# Altium footprint library SparkFun-Connectors.PCBLIB: 312 footprints (part 15 of 20)
Each footprint in its own frame and in the unit in brackets; x right, y up, seen from the top. Pads: shape width x height; smd on the part's side, far side on the other; paste and mask are expansions set on the pad; w line width, h text height; cw(c..) or ccw(c..) is an arc to the next point about the centre after c.
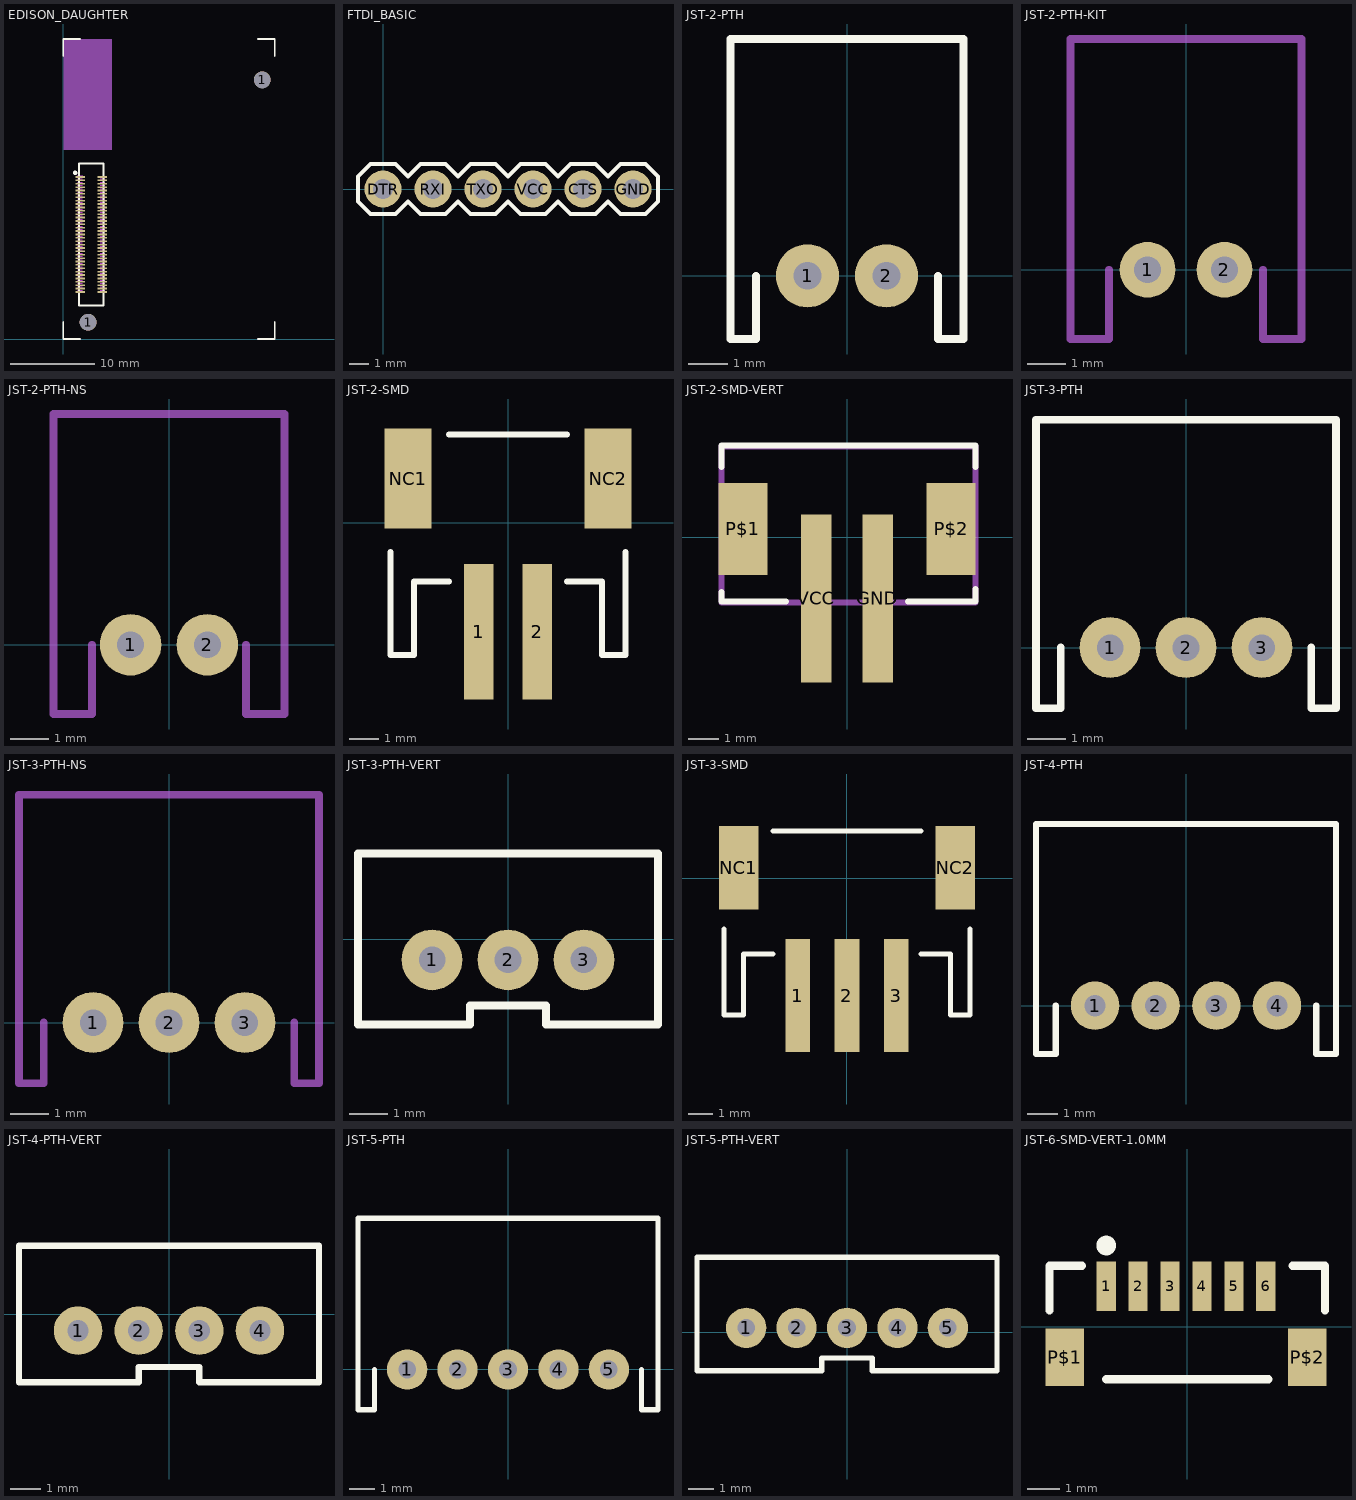
[diagram p14: the footprints below, top view; thin cyan lines are the x and y axes]

## EDISON_DAUGHTER [mm]
pads (72):
  rect 1.14x0.2 smd: 1(1.98,19.17) 2(4.62,19.17) 3(1.98,18.77) 4(4.62,18.77) 5(1.98,18.37) 6(4.62,18.37) 7(1.98,17.97) 8(4.62,17.97) 9(1.98,17.57) 10(4.62,17.57) 11(1.98,17.17) 12(4.62,17.17) 13(1.98,16.77) 14(4.62,16.77) 15(1.98,16.37) 16(4.62,16.37) 17(1.98,15.97) 18(4.62,15.97) 19(1.98,15.57) 20(4.62,15.57) 21(1.98,15.17) 22(4.62,15.17) 23(1.98,14.77) 24(4.62,14.77) 25(1.98,14.37) 26(4.62,14.37) 27(1.98,13.97) 28(4.62,13.97) 29(1.98,13.57) 30(4.62,13.57) 31(1.98,13.17) 32(4.62,13.17) 33(1.98,12.77) 34(4.62,12.77) 35(1.98,12.37) 36(4.62,12.37) 37(1.98,11.97) 38(4.62,11.97) 39(1.98,11.57) 40(4.62,11.57) 41(1.98,11.17) 42(4.62,11.17) 43(1.98,10.77) 44(4.62,10.77) 45(1.98,10.37) 46(4.62,10.37) 47(1.98,9.97) 48(4.62,9.97) 49(1.98,9.57) 50(4.62,9.57) 51(1.98,9.17) 52(4.62,9.17) 53(1.98,8.77) 54(4.62,8.77) 55(1.98,8.37) 56(4.62,8.37) 57(1.98,7.97) 58(4.62,7.97) 59(1.98,7.57) 60(4.62,7.57) 61(1.98,7.17) 62(4.62,7.17) 63(1.98,6.77) 64(4.62,6.77) 65(1.98,6.37) 66(4.62,6.37) 67(1.98,5.97) 68(4.62,5.97) 69(1.98,5.57) 70(4.62,5.57)
  round 2 hole 2: 1(2.93,1.98) 1(23.53,30.67)
Top Overlay:
  circle w0.305: c1.4,19.67 r0.1
  lines w0.203: 0,2 0,0 2,0 ; 0,33.5 0,35.5 2,35.5 ; 23,0 25,0 25,2 ; 23,35.5 25,35.5 25,33.5 ; 1.86,3.97 1.86,20.77 4.74,20.77 4.74,3.97 1.86,3.97
Mechanical 8 keep-out:
  lines w0.025: 1.663,19.319 2.297,19.319
  lines w0.051: 1.724,5.77 2.236,5.77 ; 1.724,6.17 2.236,6.17 ; 1.724,6.57 2.236,6.57 ; 1.724,6.97 2.236,6.97 ; 1.724,7.37 2.236,7.37 ; 1.724,7.77 2.236,7.77 ; 1.724,8.17 2.236,8.17 ; 1.724,8.57 2.236,8.57 ; 1.724,8.97 2.236,8.97 ; 1.724,9.37 2.236,9.37 ; 1.724,9.77 2.236,9.77 ; 1.724,10.17 2.236,10.17 ; 1.724,10.57 2.236,10.57 ; 1.724,10.97 2.236,10.97 ; 1.724,11.37 2.236,11.37 ; 1.724,11.77 2.236,11.77 ; 1.724,12.17 2.236,12.17 ; 1.724,12.57 2.236,12.57 ; 1.724,12.97 2.236,12.97 ; 1.724,13.37 2.236,13.37 ; 1.724,13.77 2.236,13.77 ; 1.724,14.17 2.236,14.17 ; 1.724,14.57 2.236,14.57 ; 1.724,14.97 2.236,14.97 ; 1.724,15.37 2.236,15.37 ; 1.724,15.77 2.236,15.77 ; 1.724,16.17 2.236,16.17 ; 1.724,16.57 2.236,16.57 ; 1.724,16.97 2.236,16.97 ; 1.724,17.37 2.236,17.37 ; 1.724,17.77 2.236,17.77 ; 1.724,18.17 2.236,18.17 ; 1.724,18.57 2.236,18.57 ; 1.724,18.97 2.236,18.97 ; 4.369,5.77 4.881,5.77 ; 4.369,6.17 4.881,6.17 ; 4.369,6.57 4.881,6.57 ; 4.369,6.97 4.881,6.97 ; 4.369,7.37 4.881,7.37 ; 4.369,7.77 4.881,7.77 ; 4.369,8.17 4.881,8.17 ; 4.369,8.57 4.881,8.57 ; 4.369,8.97 4.881,8.97 ; 4.369,9.37 4.881,9.37 ; 4.369,9.77 4.881,9.77 ; 4.369,10.17 4.881,10.17 ; 4.369,10.57 4.881,10.57 ; 4.369,10.97 4.881,10.97 ; 4.369,11.37 4.881,11.37 ; 4.369,11.77 4.881,11.77 ; 4.369,12.17 4.881,12.17 ; 4.369,12.57 4.881,12.57 ; 4.369,12.97 4.881,12.97 ; 4.369,13.37 4.881,13.37 ; 4.369,13.77 4.881,13.77 ; 4.369,14.17 4.881,14.17 ; 4.369,14.57 4.881,14.57 ; 4.369,14.97 4.881,14.97 ; 4.369,15.37 4.881,15.37 ; 4.369,15.77 4.881,15.77 ; 4.369,16.17 4.881,16.17 ; 4.369,16.57 4.881,16.57 ; 4.369,16.97 4.881,16.97 ; 4.369,17.37 4.881,17.37 ; 4.369,17.77 4.881,17.77 ; 4.369,18.17 4.881,18.17 ; 4.369,18.57 4.881,18.57 ; 4.369,18.97 4.881,18.97
Mechanical 27:
  region: 5.78,35.5 0,35.5 0,22.39 5.78,22.39
Mechanical 28:
  region: 5.78,35.5 0,35.5 0,22.39 5.78,22.39

## FTDI_BASIC [mil]
pads (6):
  round 74 hole 40: CTS(400,0) DTR(0,0) GND(500,0) RXI(100,0) TXO(200,0) VCC(300,0)
Top Overlay:
  lines w8: -50,-25 -50,25 -25,50 25,50 50,25 75,50 125,50 150,25 175,50 225,50 250,25 275,50 325,50 350,25 375,50 425,50 450,25 475,50 525,50 550,25 550,-25 525,-50 475,-50 450,-25 425,-50 375,-50 350,-25 325,-50 275,-50 250,-25 225,-50 175,-50 150,-25 125,-50 75,-50 50,-25 25,-50 -25,-50 -50,-25
Mechanical 16:
  rectangle: 490,-10 510,10
  rectangle: 390,-10 410,10
  rectangle: 290,-10 310,10
  rectangle: 190,-10 210,10
  rectangle: 90,-10 110,10
  rectangle: -10,-10 10,10
  text "GRN" at 25,75 h42.5
  text "BLK" at 525,75 h42.5

## JST-2-PTH [mm]
pads (2):
  round 1.6 hole 0.7: 1(-1,0) 2(1,0)
Top Overlay:
  lines w0.203: -2.3,0 -2.3,-1.6 -2.95,-1.6 -2.95,6 2.95,6 2.95,-1.6 2.3,-1.6 2.3,0
Mechanical 16:
  text "+" at 0.6,0.7 h1.97
  text "-" at -1.4,0.7 h1.97

## JST-2-PTH-KIT [mil]
pads (2):
  round 57 hole 27.56: 1(-39.37,0) 2(39.37,0)
Top Solder:
  region: -39.37,-11.28 -41.61,-11.28 -45.76,-9.57 -48.94,-6.39 -50.65,-2.24 -50.65,0 -50.65,2.24 -48.93,6.39 -45.76,9.56 -41.61,11.28 -39.37,11.28 -37.13,11.28 -32.98,9.56 -29.81,6.39 -28.09,2.24 -28.09,0 -28.09,-2.24 -29.81,-6.39 -32.98,-9.56 -37.13,-11.28
  region: 39.37,-11.28 37.13,-11.28 32.98,-9.57 29.8,-6.39 28.09,-2.24 28.09,0 28.09,2.24 29.81,6.39 32.98,9.56 37.13,11.28 39.37,11.28 41.61,11.28 45.76,9.56 48.93,6.39 50.65,2.24 50.65,0 50.65,-2.24 48.93,-6.39 45.76,-9.56 41.61,-11.28
Bottom Solder:
  region: -39.27,-26 -41.84,-26.01 -46.87,-25.01 -51.62,-23.06 -55.89,-20.22 -59.52,-16.6 -62.38,-12.33 -64.36,-7.6 -65.37,-2.57 -65.37,0 -65.37,2.56 -64.37,7.58 -62.41,12.32 -59.57,16.57 -55.95,20.2 -51.69,23.04 -46.95,25 -41.93,26 -39.37,26 -36.81,26 -31.79,25 -27.05,23.04 -22.8,20.2 -19.17,16.57 -16.33,12.32 -14.37,7.58 -13.37,2.56 -13.37,0 -13.36,-2.56 -14.35,-7.57 -16.29,-12.3 -19.13,-16.56 -22.73,-20.18 -26.98,-23.03 -31.7,-24.99 -36.71,-26
  region: 39.47,-26 36.9,-26.01 31.87,-25.01 27.12,-23.06 22.85,-20.22 19.22,-16.6 16.36,-12.33 14.38,-7.6 13.37,-2.57 13.37,0 13.37,2.56 14.37,7.58 16.33,12.32 19.17,16.57 22.79,20.2 27.05,23.04 31.79,25 36.81,26 39.37,26 41.93,26 46.95,25 51.69,23.04 55.94,20.2 59.57,16.57 62.41,12.32 64.37,7.58 65.37,2.56 65.37,0 65.38,-2.56 64.39,-7.57 62.45,-12.3 59.61,-16.56 56.01,-20.18 51.76,-23.03 47.04,-24.99 42.03,-26
Mechanical 16:
  lines w8: -78.74,0 -78.74,-70.87 -118.11,-70.87 -118.11,236.22 118.11,236.22 118.11,-70.87 78.74,-70.87 78.74,0
  text "+" at 23.62,27.56 h77.5
  text "-" at -55.12,27.56 h77.5

## JST-2-PTH-NS [mm]
pads (2):
  round 1.6 hole 0.7: 1(-1,0) 2(1,0)
Mechanical 16:
  lines w0.203: -2,0 -2,-1.8 -3,-1.8 -3,6 3,6 3,-1.8 2,-1.8 2,0
  text "+" at 0.6,0.7 h1.97
  text "-" at -1.4,0.7 h1.97

## JST-2-SMD [mm]
pads (4):
  rect 1x4.6 smd: 1(-1,-3.7) 2(1,-3.7)
  rect 1.6x3.4 smd: NC1(-3.4,1.5) NC2(3.4,1.5)
Top Overlay:
  lines w0.203: -4,-1 -4,-4.5 -3.2,-4.5 -3.2,-2 -2,-2 ; -2,3 2,3 ; 2,-2 3.2,-2 3.2,-4.5 4,-4.5 4,-1

## JST-2-SMD-VERT [mm]
pads (4):
  rect 1x5.5 smd: GND(1,-2) VCC(-1,-2)
  rect 1.6x3 smd: P$1(-3.4,0.27) P$2(3.4,0.27)
Top Overlay:
  lines w0.203: -4.1,-1.8 -4.1,-2.1 -2,-2.1 ; -4.1,2.3 -4.1,3 4.2,3 4.2,2.3 ; 2,-2.1 4.2,-2.1 4.2,-1.7
Mechanical 16:
  lines w0.203: -4.1,-2.13 4.2,-2.13 4.2,2.97 -4.1,2.97 -4.1,-2.13

## JST-3-PTH [mm]
pads (3):
  round 1.6 hole 0.7: 1(-2,0) 2(0,0) 3(2,0)
Top Overlay:
  lines w0.203: -3.3,0 -3.3,-1.6 -3.95,-1.6 -3.95,6 3.95,6 3.95,-1.6 3.3,-1.6 3.3,0
Mechanical 16:
  text "+" at -2.4,0.67 h1.97
  text "-" at -0.4,0.67 h1.97
  text "S" at 1.7,0.87 h1.24

## JST-3-PTH-NS [mm]
pads (3):
  round 1.6 hole 0.7: 1(-2,0) 2(0,0) 3(2,0)
Mechanical 16:
  lines w0.203: -3.3,0 -3.3,-1.6 -3.95,-1.6 -3.95,6 3.95,6 3.95,-1.6 3.3,-1.6 3.3,0
  text "+" at -2.4,0.67 h1.97
  text "-" at -0.4,0.67 h1.97
  text "S" at 1.7,0.87 h1.24

## JST-3-PTH-VERT [mm]
pads (3):
  round 1.6 hole 0.7: 1(-2,-0.55) 2(0,-0.55) 3(2,-0.55)
Top Overlay:
  lines w0.203: -3.95,-2.25 -3.95,2.25 3.95,2.25 3.95,-2.25 1,-2.25 1,-1.75 -1,-1.75 -1,-2.25 -3.95,-2.25
Mechanical 16:
  text "+" at -2.4,0.75 h1.97
  text "-" at -0.4,0.75 h1.97
  text "S" at 1.7,0.95 h1.24

## JST-3-SMD [mm]
pads (5):
  rect 1x4.6 smd: 1(-1.99,-4.77) 2(0.01,-4.77) 3(2.01,-4.77)
  rect 1.6x3.4 smd: NC1(-4.39,0.43) NC2(4.41,0.43)
Top Overlay:
  lines w0.203: -4.99,-2.07 -4.99,-5.57 -4.19,-5.57 -4.19,-3.07 -2.99,-3.07 ; -2.99,1.93 3.01,1.93 ; 3.01,-3.07 4.21,-3.07 4.21,-5.57 5.01,-5.57 5.01,-2.07

## JST-4-PTH [mm]
pads (4):
  round 1.6 hole 0.7: 1(-3,0) 2(-1,0) 3(1,0) 4(3,0)
Top Overlay:
  lines w0.203: -4.3,0 -4.3,-1.6 -4.95,-1.6 -4.95,6 4.95,6 4.95,-1.6 4.3,-1.6 4.3,0
Mechanical 16:
  text "+" at -3.4,0.7 h1.97
  text "-" at -1.4,0.7 h1.97
  text "S" at 0.7,0.9 h1.24
  text "S" at 2.7,0.9 h1.24

## JST-4-PTH-VERT [mm]
pads (4):
  round 1.6 hole 0.7: 1(-3,-0.55) 2(-1,-0.55) 3(1,-0.55) 4(3,-0.55)
Top Overlay:
  lines w0.203: -4.95,-2.25 -4.95,2.25 4.95,2.25 4.95,-2.25 1,-2.25 1,-1.75 -1,-1.75 -1,-2.25 -4.95,-2.25
Mechanical 16:
  text "+" at -1.4,0.75 h1.97
  text "-" at 0.6,0.75 h1.97
  text "Y" at 2.7,0.95 h1.24
  text "B" at -3.3,0.95 h1.24

## JST-5-PTH [mm]
pads (5):
  round 1.6 hole 0.7: 1(-4,0) 2(-2,0) 3(0,0) 4(2,0) 5(4,0)
Top Overlay:
  lines w0.203: -5.3,0 -5.3,-1.6 -5.95,-1.6 -5.95,6 5.95,6 5.95,-1.6 5.3,-1.6 5.3,0

## JST-5-PTH-VERT [mm]
pads (5):
  round 1.6 hole 0.7: 1(-4,0.18) 2(-2,0.18) 3(0,0.18) 4(2,0.18) 5(4,0.18)
Top Overlay:
  lines w0.203: -5.95,-1.52 -5.95,2.98 5.95,2.98 5.95,-1.52 1,-1.52 1,-1.02 -1,-1.02 -1,-1.52 -5.95,-1.52

## JST-6-SMD-VERT-1.0MM [mm]
pads (8):
  rect 0.6x1.55 smd: 1(-2.54,1.27) 2(-1.54,1.27) 3(-0.54,1.27) 4(0.46,1.27) 5(1.46,1.27) 6(2.46,1.27)
  rect 1.2x1.8 smd: P$1(-3.84,-0.955) P$2(3.76,-0.955)
Top Overlay:
  circle w0.406: c-2.54,2.54 r0.105
  lines w0.254: -4.318,0.508 -4.318,1.905 -3.302,1.905 ; -2.54,-1.651 2.54,-1.651 ; 3.302,1.905 4.318,1.905 4.318,0.508